# Altium footprint library PCB - POWER INDUCTORS - WURTH WE-PD 1245.PcbLib: 1 footprints
Each footprint in its own frame and in the unit in brackets; x right, y up, seen from the top. Pads: shape width x height; smd on the part's side, far side on the other; paste and mask are expansions set on the pad; w line width, h text height; cw(c..) or ccw(c..) is an arc to the next point about the centre after c.
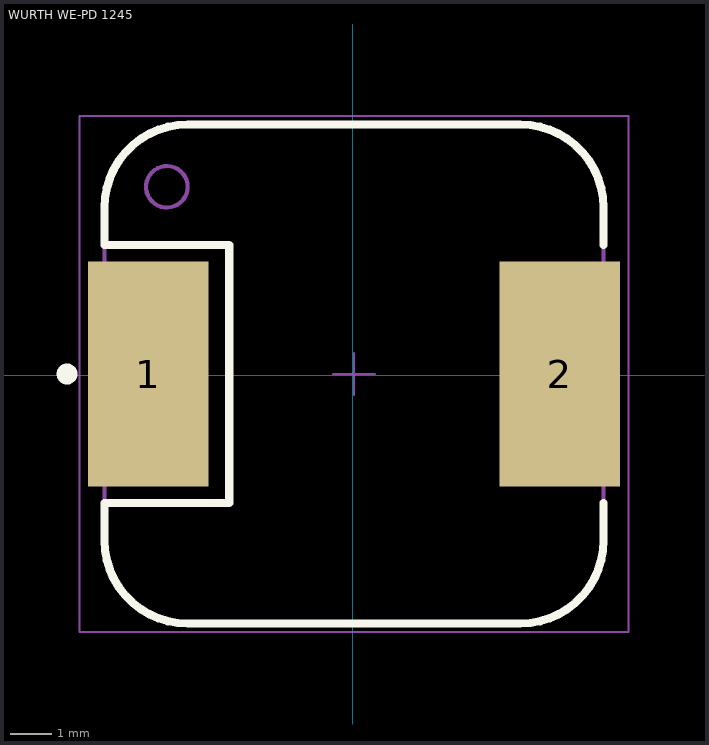
[diagram p0: the footprint, top view; thin cyan lines are the x and y axes]

## WURTH WE-PD 1245 [mm] "SMT Shielded Power Inductor, 2-leads, body 12x12mm"
height 4.5
pads (2):
  rect 2.9x5.4 smd: 1(-4.923,0.027) 2(4.977,0.027)
Top Overlay:
  circle w0.25: c-6.873,0.027 r0.125
  lines w0.2: 6.027,-3.073 6.027,-3.973 cw(c4.027,-3.973) 4.027,-5.973 -3.973,-5.973 cw(c-3.973,-3.973) -5.973,-3.973 -5.973,-3.073 -2.973,-3.073 -2.973,3.127 -5.973,3.127 -5.973,4.027 cw(c-3.973,4.027) -3.973,6.027 4.027,6.027 cw(c4.027,4.027) 6.027,4.027 6.027,3.127
Top Assembly:
  circle w0.1: c-4.473,4.527 r0.5
  lines w0.05: -0.473,0.027 0.527,0.027 ; 0.027,-0.473 0.027,0.527
  lines w0.1: -5.973,-3.973 ccw(c-3.973,-3.973) -3.973,-5.973 4.027,-5.973 ccw(c4.027,-3.973) 6.027,-3.973 6.027,4.027 ccw(c4.027,4.027) 4.027,6.027 -3.973,6.027 ccw(c-3.973,4.027) -5.973,4.027 -5.973,-3.973
Top Component Outline:
  circle w0.1: c-4.473,4.527 r0.5
  lines w0.1: -5.973,-3.973 ccw(c-3.973,-3.973) -3.973,-5.973 4.027,-5.973 ccw(c4.027,-3.973) 6.027,-3.973 6.027,4.027 ccw(c4.027,4.027) 4.027,6.027 -3.973,6.027 ccw(c-3.973,4.027) -5.973,4.027 -5.973,-3.973
Top Courtyard:
  lines w0.05: -6.573,-6.173 -6.573,6.227 6.627,6.227 6.627,-6.173 -6.573,-6.173
3D body "WE-PD_1245_m-base_7447715xx.stp": height 3.96, standoff 0, extent -5.973,-5.973 6.027,6.027